# Altium integrated library Resistor - Current Sense.IntLib: 810 symbols (part 11 of 12)
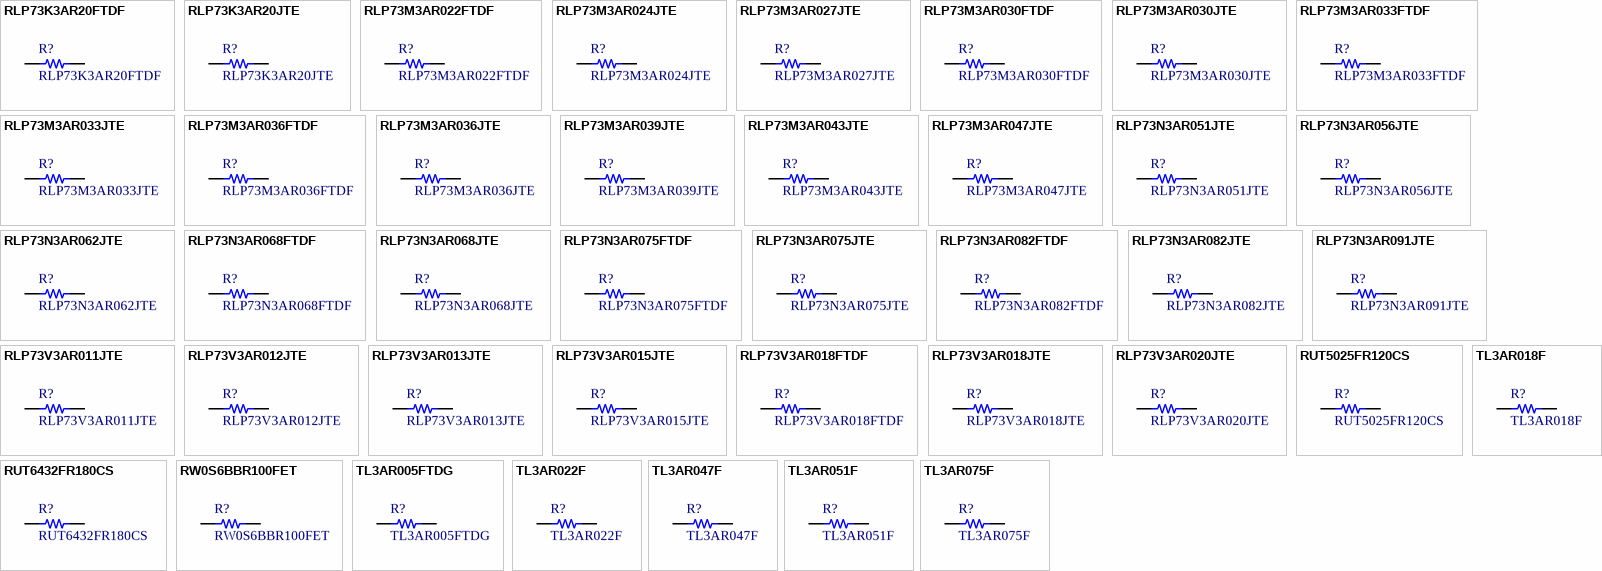
[diagram p30: symbols RLP73K3AR20FTDF to TL3AR075F]

## RUT5025FR120CS
designator R?
RES SMD 0.12 OHM 1% 2/3W 2010; Manufacturer: Samsung Electro-Mechanics America, Inc.; Value: 0.12; TemperatureRange: -55C ~ 155C; TemperatureCoefficient: 150ppm/C; PowerRating: 0.667W, 2/3W; Part Number: RUT5025FR120CS; PartId: 21520; Supplier 1: Digi-Key; Supplier Part Number 1: 1276-6182-2-ND; ComponentLink1Description: Datasheet; ComponentLink1URL: //media.digikey.com/pdf/Data%20Sheets/Samsung%20PDFs/CHIP_RESISTOR_Catalog.pdf; ComponentLink2Description: Digi-Key Listing; ComponentLink2URL: https://www.digikey.com/product-detail/en/samsung-electro-mechanics-america-inc/RUT5025FR120CS/1276-6182-2-ND/3966489; Tolerance: 1%; Price: 0.0615; Device Package: 2010 (5025 Metric)
footprint STACKPOLE CSR2010
pins: 1, 2

## RUT6432FR180CS
designator R?
RES SMD 0.18 OHM 1% 1W 2512; Manufacturer: Samsung Electro-Mechanics America, Inc.; Value: 0.18; TemperatureRange: -55C ~ 155C; TemperatureCoefficient: 150ppm/C; Part Number: RUT6432FR180CS; PartId: 21210; Supplier 1: Digi-Key; Supplier Part Number 1: 1276-6184-2-ND; ComponentLink1Description: Datasheet; ComponentLink1URL: //media.digikey.com/pdf/Data%20Sheets/Samsung%20PDFs/CHIP_RESISTOR_Catalog.pdf; ComponentLink2Description: Digi-Key Listing; ComponentLink2URL: https://www.digikey.com/product-detail/en/samsung-electro-mechanics-america-inc/RUT6432FR180CS/1276-6184-2-ND/3966491; Tolerance: 1%; PowerRating: 1W; Price: 0.0675; Device Package: 2512 (6432 Metric)
footprint STACKPOLE CSR2512
pins: 1, 2

## RW0S6BBR100FET
designator R?
RES SMD 0.1 OHM 1% 0.6W 2010; Manufacturer: Ohmite; Value: 0.1; TemperatureRange: -55C ~ 150C; TemperatureCoefficient: 90ppm/C; Part Number: RW0S6BBR100FET; PartId: 21609; Supplier 1: Digi-Key; Supplier Part Number 1: RW0S6BBR100FETTR-ND; ComponentLink1Description: Datasheet; ComponentLink1URL: http://www.ohmite.com/cat/res_surfmount.pdf; ComponentLink2Description: Digi-Key Listing; ComponentLink2URL: https://www.digikey.com/product-detail/en/ohmite/RW0S6BBR100FET/RW0S6BBR100FETTR-ND/1124887; Tolerance: 1%; PowerRating: 0.6W; Price: 0.552; Device Package: 2010 (5025 Metric)
footprint STACKPOLE CSR2010
pins: 1, 2

## TL3AR005FTDG
designator R?
RES SMD 0.005 OHM 1% 1W 2512; Value: 0.005; TemperatureRange: -65C ~ 170C; TemperatureCoefficient: 75ppm/C; Part Number: TL3AR005FTDG; PartId: 21484; Supplier 1: Digi-Key; Supplier Part Number 1: A121535TR-ND; ComponentLink1Description: Datasheet; ComponentLink1URL: http://www.te.com/commerce/DocumentDelivery/DDEController?Action=srchrtrv&DocNm=1773289&DocType=DS&DocLang=English; ComponentLink2Description: Digi-Key Listing; ComponentLink2URL: https://www.digikey.com/product-detail/en/te-connectivity-passive-product/TL3AR005FTDG/A121535TR-ND/2366040; Tolerance: 1%; PowerRating: 1W; Price: 0.5104; Device Package: 2512 (6432 Metric)
footprint STACKPOLE CSR2512
pins: 1, 2

## TL3AR018F
designator R?
RES SMD 0.018 OHM 1% 1W 2512; Value: 0.018; TemperatureRange: -65C ~ 170C; TemperatureCoefficient: 75ppm/C; Part Number: TL3AR018F; PartId: 21483; Supplier 1: Digi-Key; Supplier Part Number 1: A105814TR-ND; ComponentLink1Description: Datasheet; ComponentLink1URL: http://www.te.com/commerce/DocumentDelivery/DDEController?Action=srchrtrv&DocNm=1773289&DocType=DS&DocLang=English; ComponentLink2Description: Digi-Key Listing; ComponentLink2URL: https://www.digikey.com/product-detail/en/te-connectivity-passive-product/TL3AR018F/A105814TR-ND/3873517; Tolerance: 1%; PowerRating: 1W; Price: 0.5104; Device Package: 2512 (6432 Metric)
footprint STACKPOLE CSR2512
pins: 1, 2

## TL3AR022F
designator R?
RES SMD 0.022 OHM 1% 1W 2512; Value: 0.022; TemperatureRange: -65C ~ 170C; TemperatureCoefficient: 75ppm/C; Part Number: TL3AR022F; PartId: 21485; Supplier 1: Digi-Key; Supplier Part Number 1: A105816TR-ND; ComponentLink1Description: Datasheet; ComponentLink1URL: http://www.te.com/commerce/DocumentDelivery/DDEController?Action=srchrtrv&DocNm=1773289&DocType=DS&DocLang=English; ComponentLink2Description: Digi-Key Listing; ComponentLink2URL: https://www.digikey.com/product-detail/en/te-connectivity-passive-product/TL3AR022F/A105816TR-ND/3742562; Tolerance: 1%; PowerRating: 1W; Price: 0.5529; Device Package: 2512 (6432 Metric)
footprint STACKPOLE CSR2512
pins: 1, 2

## TL3AR047F
designator R?
RES SMD 0.047 OHM 1% 1W 2512; Value: 0.047; TemperatureRange: -65C ~ 170C; TemperatureCoefficient: 75ppm/C; Part Number: TL3AR047F; PartId: 21486; Supplier 1: Digi-Key; Supplier Part Number 1: A105818TR-ND; ComponentLink1Description: Datasheet; ComponentLink1URL: http://www.te.com/commerce/DocumentDelivery/DDEController?Action=srchrtrv&DocNm=1773289&DocType=DS&DocLang=English; ComponentLink2Description: Digi-Key Listing; ComponentLink2URL: https://www.digikey.com/product-detail/en/te-connectivity-passive-product/TL3AR047F/A105818TR-ND/3883200; Tolerance: 1%; PowerRating: 1W; Price: 0.5529; Device Package: 2512 (6432 Metric)
footprint STACKPOLE CSR2512
pins: 1, 2

## TL3AR051F
designator R?
RES SMD 0.051 OHM 1% 1W 2512; Value: 0.051; TemperatureRange: -65C ~ 170C; TemperatureCoefficient: 75ppm/C; Part Number: TL3AR051F; PartId: 21482; Supplier 1: Digi-Key; Supplier Part Number 1: A105525TR-ND; ComponentLink1Description: Datasheet; ComponentLink1URL: http://www.te.com/commerce/DocumentDelivery/DDEController?Action=srchrtrv&DocNm=1773289&DocType=DS&DocLang=English; ComponentLink2Description: Digi-Key Listing; ComponentLink2URL: https://www.digikey.com/product-detail/en/te-connectivity-passive-product/TL3AR051F/A105525TR-ND/3767288; Tolerance: 1%; PowerRating: 1W; Price: 0.5104; Device Package: 2512 (6432 Metric)
footprint STACKPOLE CSR2512
pins: 1, 2

## TL3AR075F
designator R?
RES SMD 0.075 OHM 1% 1W 2512; Value: 0.075; TemperatureRange: -65C ~ 170C; TemperatureCoefficient: 75ppm/C; Part Number: TL3AR075F; PartId: 21487; Supplier 1: Digi-Key; Supplier Part Number 1: A105874TR-ND; ComponentLink1Description: Datasheet; ComponentLink1URL: http://www.te.com/commerce/DocumentDelivery/DDEController?Action=srchrtrv&DocNm=1773289&DocType=DS&DocLang=English; ComponentLink2Description: Digi-Key Listing; ComponentLink2URL: https://www.digikey.com/product-detail/en/te-connectivity-passive-product/TL3AR075F/A105874TR-ND/3679936; Tolerance: 1%; PowerRating: 1W; Price: 0.5529; Device Package: 2512 (6432 Metric)
footprint STACKPOLE CSR2512
pins: 1, 2

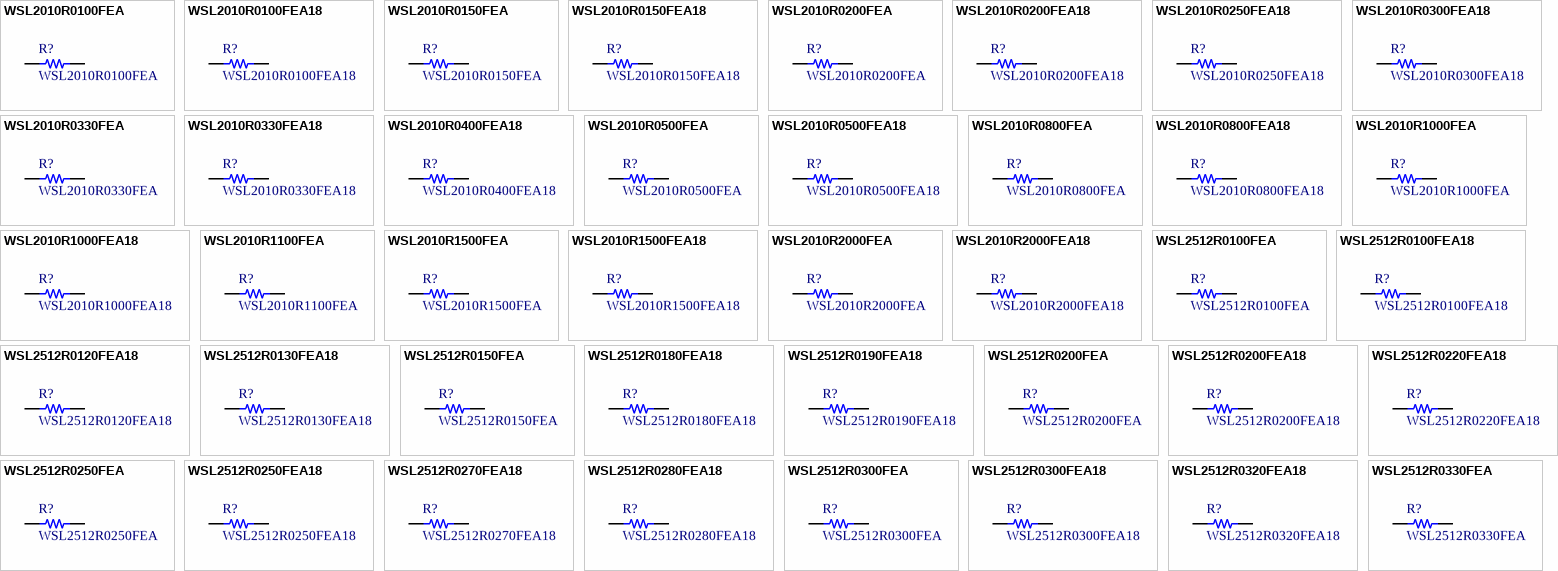
[diagram p18: symbols WSL2010R0100FEA to WSL2512R0330FEA]

## WSL2010R0100FEA
designator R?
RES SMD 0.01 OHM 1% 1/2W 2010; Manufacturer: Vishay Dale; Value: 0.01; TemperatureRange: -65C ~ 170C; TemperatureCoefficient: 75ppm/C; PowerRating: 0.5W, 1/2W; Part Number: WSL2010R0100FEA; PartId: 21575; Supplier 1: Digi-Key; Supplier Part Number 1: WSLE-.01TR-ND; ComponentLink1Description: Datasheet; ComponentLink1URL: http://www.vishay.com/docs/30100/wsl.pdf; ComponentLink2Description: Digi-Key Listing; ComponentLink2URL: https://www.digikey.com/product-detail/en/vishay-dale/WSL2010R0100FEA/WSLE-.01TR-ND/712517; Tolerance: 1%; Price: 0.325; Device Package: 2010 (5025 Metric)
footprint STACKPOLE CSR2010
pins: 1, 2

## WSL2010R0100FEA18
designator R?
RES SMD 0.01 OHM 1% 1W 2010; Manufacturer: Vishay Dale; Value: 0.01; TemperatureRange: -65C ~ 170C; TemperatureCoefficient: 75ppm/C; Part Number: WSL2010R0100FEA18; PartId: 21598; Supplier 1: Digi-Key; Supplier Part Number 1: WSLF-.01TR-ND; ComponentLink1Description: Datasheet; ComponentLink1URL: http://www.vishay.com/docs/31057/wslhigh.pdf; ComponentLink2Description: Digi-Key Listing; ComponentLink2URL: https://www.digikey.com/product-detail/en/vishay-dale/WSL2010R0100FEA18/WSLF-.01TR-ND/712518; Tolerance: 1%; PowerRating: 1W; Price: 0.4225; Device Package: 2010 (5025 Metric)
footprint STACKPOLE CSR2010
pins: 1, 2

## WSL2010R0150FEA
designator R?
RES SMD 0.015 OHM 1% 1/2W 2010; Manufacturer: Vishay Dale; Value: 0.015; TemperatureRange: -65C ~ 170C; TemperatureCoefficient: 75ppm/C; PowerRating: 0.5W, 1/2W; Part Number: WSL2010R0150FEA; PartId: 21576; Supplier 1: Digi-Key; Supplier Part Number 1: WSLE-.015TR-ND; ComponentLink1Description: Datasheet; ComponentLink1URL: http://www.vishay.com/docs/30100/wsl.pdf; ComponentLink2Description: Digi-Key Listing; ComponentLink2URL: https://www.digikey.com/product-detail/en/vishay-dale/WSL2010R0150FEA/WSLE-.015TR-ND/712519; Tolerance: 1%; Price: 0.325; Device Package: 2010 (5025 Metric)
footprint STACKPOLE CSR2010
pins: 1, 2

## WSL2010R0150FEA18
designator R?
RES SMD 0.015 OHM 1% 1W 2010; Manufacturer: Vishay Dale; Value: 0.015; TemperatureRange: -65C ~ 170C; TemperatureCoefficient: 75ppm/C; Part Number: WSL2010R0150FEA18; PartId: 21601; Supplier 1: Digi-Key; Supplier Part Number 1: WSLF-.015TR-ND; ComponentLink1Description: Datasheet; ComponentLink1URL: http://www.vishay.com/docs/31057/wslhigh.pdf; ComponentLink2Description: Digi-Key Listing; ComponentLink2URL: https://www.digikey.com/product-detail/en/vishay-dale/WSL2010R0150FEA18/WSLF-.015TR-ND/712520; Tolerance: 1%; PowerRating: 1W; Price: 0.4225; Device Package: 2010 (5025 Metric)
footprint STACKPOLE CSR2010
pins: 1, 2

## WSL2010R0200FEA
designator R?
RES SMD 0.02 OHM 1% 1/2W 2010; Manufacturer: Vishay Dale; Value: 0.02; TemperatureRange: -65C ~ 170C; TemperatureCoefficient: 75ppm/C; PowerRating: 0.5W, 1/2W; Part Number: WSL2010R0200FEA; PartId: 21574; Supplier 1: Digi-Key; Supplier Part Number 1: WSLE-.02TR-ND; ComponentLink1Description: Datasheet; ComponentLink1URL: http://www.vishay.com/docs/30100/wsl.pdf; ComponentLink2Description: Digi-Key Listing; ComponentLink2URL: https://www.digikey.com/product-detail/en/vishay-dale/WSL2010R0200FEA/WSLE-.02TR-ND/712521; Tolerance: 1%; Price: 0.325; Device Package: 2010 (5025 Metric)
footprint STACKPOLE CSR2010
pins: 1, 2

## WSL2010R0200FEA18
designator R?
RES SMD 0.02 OHM 1% 1W 2010; Manufacturer: Vishay Dale; Value: 0.02; TemperatureRange: -65C ~ 170C; TemperatureCoefficient: 75ppm/C; Part Number: WSL2010R0200FEA18; PartId: 21597; Supplier 1: Digi-Key; Supplier Part Number 1: WSLF-.02TR-ND; ComponentLink1Description: Datasheet; ComponentLink1URL: http://www.vishay.com/docs/31057/wslhigh.pdf; ComponentLink2Description: Digi-Key Listing; ComponentLink2URL: https://www.digikey.com/product-detail/en/vishay-dale/WSL2010R0200FEA18/WSLF-.02TR-ND/712522; Tolerance: 1%; PowerRating: 1W; Price: 0.4225; Device Package: 2010 (5025 Metric)
footprint STACKPOLE CSR2010
pins: 1, 2

## WSL2010R0250FEA18
designator R?
RES SMD 0.025 OHM 1% 1W 2010; Manufacturer: Vishay Dale; Value: 0.025; TemperatureRange: -65C ~ 170C; TemperatureCoefficient: 75ppm/C; Part Number: WSL2010R0250FEA18; PartId: 21600; Supplier 1: Digi-Key; Supplier Part Number 1: WSLF-.025TR-ND; ComponentLink1Description: Datasheet; ComponentLink1URL: http://www.vishay.com/docs/31057/wslhigh.pdf; ComponentLink2Description: Digi-Key Listing; ComponentLink2URL: https://www.digikey.com/product-detail/en/vishay-dale/WSL2010R0250FEA18/WSLF-.025TR-ND/712524; Tolerance: 1%; PowerRating: 1W; Price: 0.4225; Device Package: 2010 (5025 Metric)
footprint STACKPOLE CSR2010
pins: 1, 2

## WSL2010R0300FEA18
designator R?
RES SMD 0.03 OHM 1% 1W 2010; Manufacturer: Vishay Dale; Value: 0.03; TemperatureRange: -65C ~ 170C; TemperatureCoefficient: 75ppm/C; Part Number: WSL2010R0300FEA18; PartId: 21604; Supplier 1: Digi-Key; Supplier Part Number 1: WSLF-.03TR-ND; ComponentLink1Description: Datasheet; ComponentLink1URL: http://www.vishay.com/docs/31057/wslhigh.pdf; ComponentLink2Description: Digi-Key Listing; ComponentLink2URL: https://www.digikey.com/product-detail/en/vishay-dale/WSL2010R0300FEA18/WSLF-.03TR-ND/712526; Tolerance: 1%; PowerRating: 1W; Price: 0.4225; Device Package: 2010 (5025 Metric)
footprint STACKPOLE CSR2010
pins: 1, 2

## WSL2010R0330FEA
designator R?
RES SMD 0.033 OHM 1% 1/2W 2010; Manufacturer: Vishay Dale; Value: 0.033; TemperatureRange: -65C ~ 170C; TemperatureCoefficient: 75ppm/C; PowerRating: 0.5W, 1/2W; Part Number: WSL2010R0330FEA; PartId: 21573; Supplier 1: Digi-Key; Supplier Part Number 1: WSLE-.033TR-ND; ComponentLink1Description: Datasheet; ComponentLink1URL: http://www.vishay.com/docs/30100/wsl.pdf; ComponentLink2Description: Digi-Key Listing; ComponentLink2URL: https://www.digikey.com/product-detail/en/vishay-dale/WSL2010R0330FEA/WSLE-.033TR-ND/712527; Tolerance: 1%; Price: 0.325; Device Package: 2010 (5025 Metric)
footprint STACKPOLE CSR2010
pins: 1, 2

## WSL2010R0330FEA18
designator R?
RES SMD 0.033 OHM 1% 1W 2010; Manufacturer: Vishay Dale; Value: 0.033; TemperatureRange: -65C ~ 170C; TemperatureCoefficient: 75ppm/C; Part Number: WSL2010R0330FEA18; PartId: 21602; Supplier 1: Digi-Key; Supplier Part Number 1: WSLF-.033TR-ND; ComponentLink1Description: Datasheet; ComponentLink1URL: http://www.vishay.com/docs/31057/wslhigh.pdf; ComponentLink2Description: Digi-Key Listing; ComponentLink2URL: https://www.digikey.com/product-detail/en/vishay-dale/WSL2010R0330FEA18/WSLF-.033TR-ND/712528; Tolerance: 1%; PowerRating: 1W; Price: 0.4225; Device Package: 2010 (5025 Metric)
footprint STACKPOLE CSR2010
pins: 1, 2

## WSL2010R0400FEA18
designator R?
RES SMD 0.04 OHM 1% 1W 2010; Manufacturer: Vishay Dale; Value: 0.04; TemperatureRange: -65C ~ 170C; TemperatureCoefficient: 75ppm/C; Part Number: WSL2010R0400FEA18; PartId: 21603; Supplier 1: Digi-Key; Supplier Part Number 1: WSLF-.04TR-ND; ComponentLink1Description: Datasheet; ComponentLink1URL: http://www.vishay.com/docs/31057/wslhigh.pdf; ComponentLink2Description: Digi-Key Listing; ComponentLink2URL: https://www.digikey.com/product-detail/en/vishay-dale/WSL2010R0400FEA18/WSLF-.04TR-ND/712530; Tolerance: 1%; PowerRating: 1W; Price: 0.4225; Device Package: 2010 (5025 Metric)
footprint STACKPOLE CSR2010
pins: 1, 2

## WSL2010R0500FEA
designator R?
RES SMD 0.05 OHM 1% 1/2W 2010; Manufacturer: Vishay Dale; Value: 0.05; TemperatureRange: -65C ~ 170C; TemperatureCoefficient: 75ppm/C; PowerRating: 0.5W, 1/2W; Part Number: WSL2010R0500FEA; PartId: 21577; Supplier 1: Digi-Key; Supplier Part Number 1: WSLE-.05TR-ND; ComponentLink1Description: Datasheet; ComponentLink1URL: http://www.vishay.com/docs/30100/wsl.pdf; ComponentLink2Description: Digi-Key Listing; ComponentLink2URL: https://www.digikey.com/product-detail/en/vishay-dale/WSL2010R0500FEA/WSLE-.05TR-ND/712531; Tolerance: 1%; Price: 0.325; Device Package: 2010 (5025 Metric)
footprint STACKPOLE CSR2010
pins: 1, 2

## WSL2010R0500FEA18
designator R?
RES SMD 0.05 OHM 1% 1W 2010; Manufacturer: Vishay Dale; Value: 0.05; TemperatureRange: -65C ~ 170C; TemperatureCoefficient: 75ppm/C; Part Number: WSL2010R0500FEA18; PartId: 21599; Supplier 1: Digi-Key; Supplier Part Number 1: WSLF-.05TR-ND; ComponentLink1Description: Datasheet; ComponentLink1URL: http://www.vishay.com/docs/31057/wslhigh.pdf; ComponentLink2Description: Digi-Key Listing; ComponentLink2URL: https://www.digikey.com/product-detail/en/vishay-dale/WSL2010R0500FEA18/WSLF-.05TR-ND/712532; Tolerance: 1%; PowerRating: 1W; Price: 0.4225; Device Package: 2010 (5025 Metric)
footprint STACKPOLE CSR2010
pins: 1, 2

## WSL2010R0800FEA
designator R?
RES SMD 0.08 OHM 1% 1/2W 2010; Manufacturer: Vishay Dale; Value: 0.08; TemperatureRange: -65C ~ 170C; TemperatureCoefficient: 75ppm/C; PowerRating: 0.5W, 1/2W; Part Number: WSL2010R0800FEA; PartId: 21570; Supplier 1: Digi-Key; Supplier Part Number 1: WSLE-.08TR-ND; ComponentLink1Description: Datasheet; ComponentLink1URL: http://www.vishay.com/docs/30100/wsl.pdf; ComponentLink2Description: Digi-Key Listing; ComponentLink2URL: https://www.digikey.com/product-detail/en/vishay-dale/WSL2010R0800FEA/WSLE-.08TR-ND/712535; Tolerance: 1%; Price: 0.2761; Device Package: 2010 (5025 Metric)
footprint STACKPOLE CSR2010
pins: 1, 2

## WSL2010R0800FEA18
designator R?
RES SMD 0.08 OHM 1% 1W 2010; Manufacturer: Vishay Dale; Value: 0.08; TemperatureRange: -65C ~ 170C; TemperatureCoefficient: 75ppm/C; Part Number: WSL2010R0800FEA18; PartId: 21583; Supplier 1: Digi-Key; Supplier Part Number 1: WSLF-.08TR-ND; ComponentLink1Description: Datasheet; ComponentLink1URL: http://www.vishay.com/docs/31057/wslhigh.pdf; ComponentLink2Description: Digi-Key Listing; ComponentLink2URL: https://www.digikey.com/product-detail/en/vishay-dale/WSL2010R0800FEA18/WSLF-.08TR-ND/712536; Tolerance: 1%; PowerRating: 1W; Price: 0.3575; Device Package: 2010 (5025 Metric)
footprint STACKPOLE CSR2010
pins: 1, 2

## WSL2010R1000FEA
designator R?
RES SMD 0.1 OHM 1% 1/2W 2010; Manufacturer: Vishay Dale; Value: 0.1; TemperatureRange: -65C ~ 170C; TemperatureCoefficient: 75ppm/C; PowerRating: 0.5W, 1/2W; Part Number: WSL2010R1000FEA; PartId: 21568; Supplier 1: Digi-Key; Supplier Part Number 1: WSLE-.10TR-ND; ComponentLink1Description: Datasheet; ComponentLink1URL: http://www.vishay.com/docs/30100/wsl.pdf; ComponentLink2Description: Digi-Key Listing; ComponentLink2URL: https://www.digikey.com/product-detail/en/vishay-dale/WSL2010R1000FEA/WSLE-.10TR-ND/712538; Tolerance: 1%; Price: 0.2761; Device Package: 2010 (5025 Metric)
footprint STACKPOLE CSR2010
pins: 1, 2

## WSL2010R1000FEA18
designator R?
RES SMD 0.1 OHM 1% 1W 2010; Manufacturer: Vishay Dale; Value: 0.1; TemperatureRange: -65C ~ 170C; TemperatureCoefficient: 75ppm/C; Part Number: WSL2010R1000FEA18; PartId: 21581; Supplier 1: Digi-Key; Supplier Part Number 1: WSLF-.10TR-ND; ComponentLink1Description: Datasheet; ComponentLink1URL: http://www.vishay.com/docs/31057/wslhigh.pdf; ComponentLink2Description: Digi-Key Listing; ComponentLink2URL: https://www.digikey.com/product-detail/en/vishay-dale/WSL2010R1000FEA18/WSLF-.10TR-ND/712539; Tolerance: 1%; PowerRating: 1W; Price: 0.3575; Device Package: 2010 (5025 Metric)
footprint STACKPOLE CSR2010
pins: 1, 2

## WSL2010R1100FEA
designator R?
RES SMD 0.11 OHM 1% 1/2W 2010; Manufacturer: Vishay Dale; Value: 0.11; TemperatureRange: -65C ~ 170C; TemperatureCoefficient: 75ppm/C; PowerRating: 0.5W, 1/2W; Part Number: WSL2010R1100FEA; PartId: 21572; Supplier 1: Digi-Key; Supplier Part Number 1: WSLE-.11TR-ND; ComponentLink1Description: Datasheet; ComponentLink1URL: http://www.vishay.com/docs/30100/wsl.pdf; ComponentLink2Description: Digi-Key Listing; ComponentLink2URL: https://www.digikey.com/product-detail/en/vishay-dale/WSL2010R1100FEA/WSLE-.11TR-ND/712540; Tolerance: 1%; Price: 0.2761; Device Package: 2010 (5025 Metric)
footprint STACKPOLE CSR2010
pins: 1, 2

## WSL2010R1500FEA
designator R?
RES SMD 0.15 OHM 1% 1/2W 2010; Manufacturer: Vishay Dale; Value: 0.15; TemperatureRange: -65C ~ 170C; TemperatureCoefficient: 75ppm/C; PowerRating: 0.5W, 1/2W; Part Number: WSL2010R1500FEA; PartId: 21571; Supplier 1: Digi-Key; Supplier Part Number 1: WSLE-.15TR-ND; ComponentLink1Description: Datasheet; ComponentLink1URL: http://www.vishay.com/docs/30100/wsl.pdf; ComponentLink2Description: Digi-Key Listing; ComponentLink2URL: https://www.digikey.com/product-detail/en/vishay-dale/WSL2010R1500FEA/WSLE-.15TR-ND/712541; Tolerance: 1%; Price: 0.2761; Device Package: 2010 (5025 Metric)
footprint STACKPOLE CSR2010
pins: 1, 2

## WSL2010R1500FEA18
designator R?
RES SMD 0.15 OHM 1% 1W 2010; Manufacturer: Vishay Dale; Value: 0.15; TemperatureRange: -65C ~ 170C; TemperatureCoefficient: 75ppm/C; Part Number: WSL2010R1500FEA18; PartId: 21582; Supplier 1: Digi-Key; Supplier Part Number 1: WSLF-.15TR-ND; ComponentLink1Description: Datasheet; ComponentLink1URL: http://www.vishay.com/docs/31057/wslhigh.pdf; ComponentLink2Description: Digi-Key Listing; ComponentLink2URL: https://www.digikey.com/product-detail/en/vishay-dale/WSL2010R1500FEA18/WSLF-.15TR-ND/712542; Tolerance: 1%; PowerRating: 1W; Price: 0.3575; Device Package: 2010 (5025 Metric)
footprint STACKPOLE CSR2010
pins: 1, 2

## WSL2010R2000FEA
designator R?
RES SMD 0.2 OHM 1% 1/2W 2010; Manufacturer: Vishay Dale; Value: 0.2; TemperatureRange: -65C ~ 170C; TemperatureCoefficient: 75ppm/C; PowerRating: 0.5W, 1/2W; Part Number: WSL2010R2000FEA; PartId: 21569; Supplier 1: Digi-Key; Supplier Part Number 1: WSLE-.20TR-ND; ComponentLink1Description: Datasheet; ComponentLink1URL: http://www.vishay.com/docs/30100/wsl.pdf; ComponentLink2Description: Digi-Key Listing; ComponentLink2URL: https://www.digikey.com/product-detail/en/vishay-dale/WSL2010R2000FEA/WSLE-.20TR-ND/712543; Tolerance: 1%; Price: 0.2761; Device Package: 2010 (5025 Metric)
footprint STACKPOLE CSR2010
pins: 1, 2

## WSL2010R2000FEA18
designator R?
RES SMD 0.2 OHM 1% 1W 2010; Manufacturer: Vishay Dale; Value: 0.2; TemperatureRange: -65C ~ 170C; TemperatureCoefficient: 75ppm/C; Part Number: WSL2010R2000FEA18; PartId: 21580; Supplier 1: Digi-Key; Supplier Part Number 1: WSLF-.20TR-ND; ComponentLink1Description: Datasheet; ComponentLink1URL: http://www.vishay.com/docs/31057/wslhigh.pdf; ComponentLink2Description: Digi-Key Listing; ComponentLink2URL: https://www.digikey.com/product-detail/en/vishay-dale/WSL2010R2000FEA18/WSLF-.20TR-ND/712544; Tolerance: 1%; PowerRating: 1W; Price: 0.3575; Device Package: 2010 (5025 Metric)
footprint STACKPOLE CSR2010
pins: 1, 2

## WSL2512R0100FEA
designator R?
RES SMD 0.01 OHM 1% 1W 2512; Manufacturer: Vishay Dale; Value: 0.01; TemperatureRange: -65C ~ 170C; TemperatureCoefficient: 75ppm/C; Part Number: WSL2512R0100FEA; PartId: 21472; Supplier 1: Digi-Key; Supplier Part Number 1: WSLG-.01TR-ND; ComponentLink1Description: Datasheet; ComponentLink1URL: http://www.vishay.com/docs/30100/wsl.pdf; ComponentLink2Description: Digi-Key Listing; ComponentLink2URL: https://www.digikey.com/product-detail/en/vishay-dale/WSL2512R0100FEA/WSLG-.01TR-ND/712561; Tolerance: 1%; PowerRating: 1W; Price: 0.442; Device Package: 2512 (6432 Metric)
footprint STACKPOLE CSR2512
pins: 1, 2

## WSL2512R0100FEA18
designator R?
RES SMD 0.01 OHM 1% 2W 2512; Manufacturer: Vishay Dale; Value: 0.01; TemperatureRange: -65C ~ 170C; TemperatureCoefficient: 75ppm/C; Part Number: WSL2512R0100FEA18; PartId: 21488; Supplier 1: Digi-Key; Supplier Part Number 1: WSLH-.01TR-ND; ComponentLink1Description: Datasheet; ComponentLink1URL: http://www.vishay.com/docs/31057/wslhigh.pdf; ComponentLink2Description: Digi-Key Listing; ComponentLink2URL: https://www.digikey.com/product-detail/en/vishay-dale/WSL2512R0100FEA18/WSLH-.01TR-ND/2695047; Tolerance: 1%; PowerRating: 2W; Price: 0.572; Device Package: 2512 (6432 Metric)
footprint STACKPOLE CSR2512
pins: 1, 2

## WSL2512R0120FEA18
designator R?
RES SMD 0.012 OHM 1% 2W 2512; Manufacturer: Vishay Dale; Value: 0.012; TemperatureRange: -65C ~ 170C; TemperatureCoefficient: 75ppm/C; Part Number: WSL2512R0120FEA18; PartId: 21469; Supplier 1: Digi-Key; Supplier Part Number 1: WSLH-.012TR-ND; ComponentLink1Description: Datasheet; ComponentLink1URL: http://www.vishay.com/docs/31057/wslhigh.pdf; ComponentLink2Description: Digi-Key Listing; ComponentLink2URL: https://www.digikey.com/product-detail/en/vishay-dale/WSL2512R0120FEA18/WSLH-.012TR-ND/2695048; Tolerance: 1%; PowerRating: 2W; Price: 0.4225; Device Package: 2512 (6432 Metric)
footprint STACKPOLE CSR2512
pins: 1, 2

## WSL2512R0130FEA18
designator R?
RES SMD 0.013 OHM 1% 2W 2512; Manufacturer: Vishay Dale; Value: 0.013; TemperatureRange: -65C ~ 170C; TemperatureCoefficient: 75ppm/C; Part Number: WSL2512R0130FEA18; PartId: 21489; Supplier 1: Digi-Key; Supplier Part Number 1: WSLH-.013TR-ND; ComponentLink1Description: Datasheet; ComponentLink1URL: http://www.vishay.com/docs/31057/wslhigh.pdf; ComponentLink2Description: Digi-Key Listing; ComponentLink2URL: https://www.digikey.com/product-detail/en/vishay-dale/WSL2512R0130FEA18/WSLH-.013TR-ND/2695049; Tolerance: 1%; PowerRating: 2W; Price: 0.572; Device Package: 2512 (6432 Metric)
footprint STACKPOLE CSR2512
pins: 1, 2

## WSL2512R0150FEA
designator R?
RES SMD 0.015 OHM 1% 1W 2512; Manufacturer: Vishay Dale; Value: 0.015; TemperatureRange: -65C ~ 170C; TemperatureCoefficient: 75ppm/C; Part Number: WSL2512R0150FEA; PartId: 21479; Supplier 1: Digi-Key; Supplier Part Number 1: WSLG-.015TR-ND; ComponentLink1Description: Datasheet; ComponentLink1URL: http://www.vishay.com/docs/30100/wsl.pdf; ComponentLink2Description: Digi-Key Listing; ComponentLink2URL: https://www.digikey.com/product-detail/en/vishay-dale/WSL2512R0150FEA/WSLG-.015TR-ND/712562; Tolerance: 1%; PowerRating: 1W; Price: 0.442; Device Package: 2512 (6432 Metric)
footprint STACKPOLE CSR2512
pins: 1, 2

## WSL2512R0180FEA18
designator R?
RES SMD 0.018 OHM 1% 2W 2512; Manufacturer: Vishay Dale; Value: 0.018; TemperatureRange: -65C ~ 170C; TemperatureCoefficient: 75ppm/C; Part Number: WSL2512R0180FEA18; PartId: 21492; Supplier 1: Digi-Key; Supplier Part Number 1: WSLH-.018TR-ND; ComponentLink1Description: Datasheet; ComponentLink1URL: http://www.vishay.com/docs/31057/wslhigh.pdf; ComponentLink2Description: Digi-Key Listing; ComponentLink2URL: https://www.digikey.com/product-detail/en/vishay-dale/WSL2512R0180FEA18/WSLH-.018TR-ND/2695053; Tolerance: 1%; PowerRating: 2W; Price: 0.572; Device Package: 2512 (6432 Metric)
footprint STACKPOLE CSR2512
pins: 1, 2

## WSL2512R0190FEA18
designator R?
RES SMD 0.019 OHM 1% 2W 2512; Manufacturer: Vishay Dale; Value: 0.019; TemperatureRange: -65C ~ 170C; TemperatureCoefficient: 75ppm/C; Part Number: WSL2512R0190FEA18; PartId: 21497; Supplier 1: Digi-Key; Supplier Part Number 1: WSLH-.019TR-ND; ComponentLink1Description: Datasheet; ComponentLink1URL: http://www.vishay.com/docs/31057/wslhigh.pdf; ComponentLink2Description: Digi-Key Listing; ComponentLink2URL: https://www.digikey.com/product-detail/en/vishay-dale/WSL2512R0190FEA18/WSLH-.019TR-ND/2695054; Tolerance: 1%; PowerRating: 2W; Price: 0.572; Device Package: 2512 (6432 Metric)
footprint STACKPOLE CSR2512
pins: 1, 2

## WSL2512R0200FEA
designator R?
RES SMD 0.02 OHM 1% 1W 2512; Manufacturer: Vishay Dale; Value: 0.02; TemperatureRange: -65C ~ 170C; TemperatureCoefficient: 75ppm/C; Part Number: WSL2512R0200FEA; PartId: 21475; Supplier 1: Digi-Key; Supplier Part Number 1: WSLG-.02TR-ND; ComponentLink1Description: Datasheet; ComponentLink1URL: http://www.vishay.com/docs/30100/wsl.pdf; ComponentLink2Description: Digi-Key Listing; ComponentLink2URL: https://www.digikey.com/product-detail/en/vishay-dale/WSL2512R0200FEA/WSLG-.02TR-ND/712563; Tolerance: 1%; PowerRating: 1W; Price: 0.442; Device Package: 2512 (6432 Metric)
footprint STACKPOLE CSR2512
pins: 1, 2

## WSL2512R0200FEA18
designator R?
RES SMD 0.02 OHM 1% 2W 2512; Manufacturer: Vishay Dale; Value: 0.02; TemperatureRange: -65C ~ 170C; TemperatureCoefficient: 75ppm/C; Part Number: WSL2512R0200FEA18; PartId: 21491; Supplier 1: Digi-Key; Supplier Part Number 1: WSLH-.02TR-ND; ComponentLink1Description: Datasheet; ComponentLink1URL: http://www.vishay.com/docs/31057/wslhigh.pdf; ComponentLink2Description: Digi-Key Listing; ComponentLink2URL: https://www.digikey.com/product-detail/en/vishay-dale/WSL2512R0200FEA18/WSLH-.02TR-ND/2695055; Tolerance: 1%; PowerRating: 2W; Price: 0.572; Device Package: 2512 (6432 Metric)
footprint STACKPOLE CSR2512
pins: 1, 2

## WSL2512R0220FEA18
designator R?
RES SMD 0.022 OHM 1% 2W 2512; Manufacturer: Vishay Dale; Value: 0.022; TemperatureRange: -65C ~ 170C; TemperatureCoefficient: 75ppm/C; Part Number: WSL2512R0220FEA18; PartId: 21493; Supplier 1: Digi-Key; Supplier Part Number 1: WSLH-.022TR-ND; ComponentLink1Description: Datasheet; ComponentLink1URL: http://www.vishay.com/docs/31057/wslhigh.pdf; ComponentLink2Description: Digi-Key Listing; ComponentLink2URL: https://www.digikey.com/product-detail/en/vishay-dale/WSL2512R0220FEA18/WSLH-.022TR-ND/2695056; Tolerance: 1%; PowerRating: 2W; Price: 0.572; Device Package: 2512 (6432 Metric)
footprint STACKPOLE CSR2512
pins: 1, 2

## WSL2512R0250FEA
designator R?
RES SMD 0.025 OHM 1% 1W 2512; Manufacturer: Vishay Dale; Value: 0.025; TemperatureRange: -65C ~ 170C; TemperatureCoefficient: 75ppm/C; Part Number: WSL2512R0250FEA; PartId: 21474; Supplier 1: Digi-Key; Supplier Part Number 1: WSLG-.025TR-ND; ComponentLink1Description: Datasheet; ComponentLink1URL: http://www.vishay.com/docs/30100/wsl.pdf; ComponentLink2Description: Digi-Key Listing; ComponentLink2URL: https://www.digikey.com/product-detail/en/vishay-dale/WSL2512R0250FEA/WSLG-.025TR-ND/712564; Tolerance: 1%; PowerRating: 1W; Price: 0.442; Device Package: 2512 (6432 Metric)
footprint STACKPOLE CSR2512
pins: 1, 2

## WSL2512R0250FEA18
designator R?
RES SMD 0.025 OHM 1% 2W 2512; Manufacturer: Vishay Dale; Value: 0.025; TemperatureRange: -65C ~ 170C; TemperatureCoefficient: 75ppm/C; Part Number: WSL2512R0250FEA18; PartId: 21494; Supplier 1: Digi-Key; Supplier Part Number 1: WSLH-.025TR-ND; ComponentLink1Description: Datasheet; ComponentLink1URL: http://www.vishay.com/docs/31057/wslhigh.pdf; ComponentLink2Description: Digi-Key Listing; ComponentLink2URL: https://www.digikey.com/product-detail/en/vishay-dale/WSL2512R0250FEA18/WSLH-.025TR-ND/2695057; Tolerance: 1%; PowerRating: 2W; Price: 0.572; Device Package: 2512 (6432 Metric)
footprint STACKPOLE CSR2512
pins: 1, 2

## WSL2512R0270FEA18
designator R?
RES SMD 0.027 OHM 1% 2W 2512; Manufacturer: Vishay Dale; Value: 0.027; TemperatureRange: -65C ~ 170C; TemperatureCoefficient: 75ppm/C; Part Number: WSL2512R0270FEA18; PartId: 21490; Supplier 1: Digi-Key; Supplier Part Number 1: WSLH-.027TR-ND; ComponentLink1Description: Datasheet; ComponentLink1URL: http://www.vishay.com/docs/31057/wslhigh.pdf; ComponentLink2Description: Digi-Key Listing; ComponentLink2URL: https://www.digikey.com/product-detail/en/vishay-dale/WSL2512R0270FEA18/WSLH-.027TR-ND/2695059; Tolerance: 1%; PowerRating: 2W; Price: 0.572; Device Package: 2512 (6432 Metric)
footprint STACKPOLE CSR2512
pins: 1, 2

## WSL2512R0280FEA18
designator R?
RES SMD 0.028 OHM 1% 2W 2512; Manufacturer: Vishay Dale; Value: 0.028; TemperatureRange: -65C ~ 170C; TemperatureCoefficient: 75ppm/C; Part Number: WSL2512R0280FEA18; PartId: 21498; Supplier 1: Digi-Key; Supplier Part Number 1: WSLH-.028TR-ND; ComponentLink1Description: Datasheet; ComponentLink1URL: http://www.vishay.com/docs/31057/wslhigh.pdf; ComponentLink2Description: Digi-Key Listing; ComponentLink2URL: https://www.digikey.com/product-detail/en/vishay-dale/WSL2512R0280FEA18/WSLH-.028TR-ND/2695060; Tolerance: 1%; PowerRating: 2W; Price: 0.572; Device Package: 2512 (6432 Metric)
footprint STACKPOLE CSR2512
pins: 1, 2

## WSL2512R0300FEA
designator R?
RES SMD 0.03 OHM 1% 1W 2512; Manufacturer: Vishay Dale; Value: 0.03; TemperatureRange: -65C ~ 170C; TemperatureCoefficient: 75ppm/C; Part Number: WSL2512R0300FEA; PartId: 21477; Supplier 1: Digi-Key; Supplier Part Number 1: WSLG-.03TR-ND; ComponentLink1Description: Datasheet; ComponentLink1URL: http://www.vishay.com/docs/30100/wsl.pdf; ComponentLink2Description: Digi-Key Listing; ComponentLink2URL: https://www.digikey.com/product-detail/en/vishay-dale/WSL2512R0300FEA/WSLG-.03TR-ND/712565; Tolerance: 1%; PowerRating: 1W; Price: 0.442; Device Package: 2512 (6432 Metric)
footprint STACKPOLE CSR2512
pins: 1, 2

## WSL2512R0300FEA18
designator R?
RES SMD 0.03 OHM 1% 2W 2512; Manufacturer: Vishay Dale; Value: 0.03; TemperatureRange: -65C ~ 170C; TemperatureCoefficient: 75ppm/C; Part Number: WSL2512R0300FEA18; PartId: 21470; Supplier 1: Digi-Key; Supplier Part Number 1: WSLH-.03TR-ND; ComponentLink1Description: Datasheet; ComponentLink1URL: http://www.vishay.com/docs/31057/wslhigh.pdf; ComponentLink2Description: Digi-Key Listing; ComponentLink2URL: https://www.digikey.com/product-detail/en/vishay-dale/WSL2512R0300FEA18/WSLH-.03TR-ND/2695062; Tolerance: 1%; PowerRating: 2W; Price: 0.4225; Device Package: 2512 (6432 Metric)
footprint STACKPOLE CSR2512
pins: 1, 2

## WSL2512R0320FEA18
designator R?
RES SMD 0.032 OHM 1% 2W 2512; Manufacturer: Vishay Dale; Value: 0.032; TemperatureRange: -65C ~ 170C; TemperatureCoefficient: 75ppm/C; Part Number: WSL2512R0320FEA18; PartId: 21495; Supplier 1: Digi-Key; Supplier Part Number 1: WSLH-.032TR-ND; ComponentLink1Description: Datasheet; ComponentLink1URL: http://www.vishay.com/docs/31057/wslhigh.pdf; ComponentLink2Description: Digi-Key Listing; ComponentLink2URL: https://www.digikey.com/product-detail/en/vishay-dale/WSL2512R0320FEA18/WSLH-.032TR-ND/2695063; Tolerance: 1%; PowerRating: 2W; Price: 0.572; Device Package: 2512 (6432 Metric)
footprint STACKPOLE CSR2512
pins: 1, 2

## WSL2512R0330FEA
designator R?
RES SMD 0.033 OHM 1% 1W 2512; Manufacturer: Vishay Dale; Value: 0.033; TemperatureRange: -65C ~ 170C; TemperatureCoefficient: 75ppm/C; Part Number: WSL2512R0330FEA; PartId: 21480; Supplier 1: Digi-Key; Supplier Part Number 1: WSLG-.033TR-ND; ComponentLink1Description: Datasheet; ComponentLink1URL: http://www.vishay.com/docs/30100/wsl.pdf; ComponentLink2Description: Digi-Key Listing; ComponentLink2URL: https://www.digikey.com/product-detail/en/vishay-dale/WSL2512R0330FEA/WSLG-.033TR-ND/712566; Tolerance: 1%; PowerRating: 1W; Price: 0.442; Device Package: 2512 (6432 Metric)
footprint STACKPOLE CSR2512
pins: 1, 2

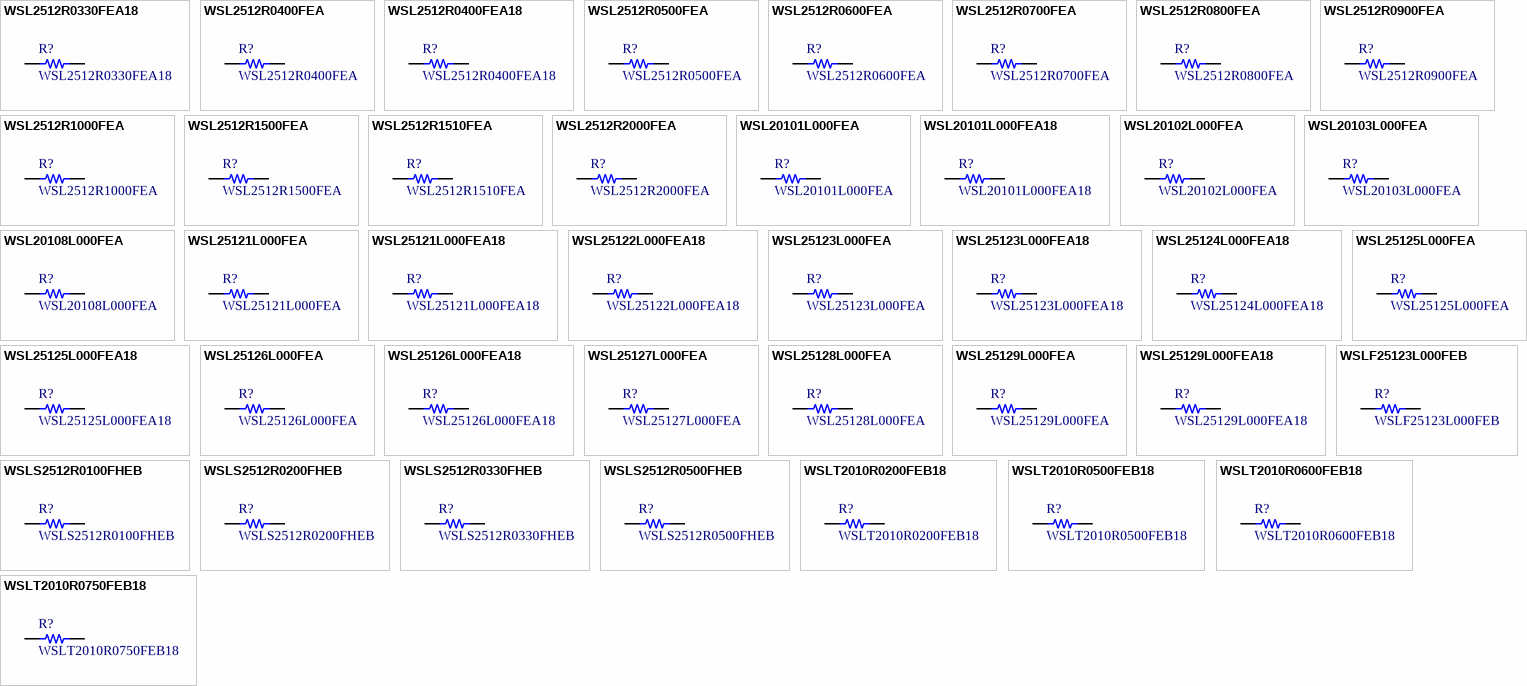
[diagram p19: symbols WSL2512R0330FEA18 to WSLT2010R0750FEB18]

## WSL2512R0330FEA18
designator R?
RES SMD 0.033 OHM 1% 2W 2512; Manufacturer: Vishay Dale; Value: 0.033; TemperatureRange: -65C ~ 170C; TemperatureCoefficient: 75ppm/C; Part Number: WSL2512R0330FEA18; PartId: 21499; Supplier 1: Digi-Key; Supplier Part Number 1: WSLH-.033TR-ND; ComponentLink1Description: Datasheet; ComponentLink1URL: http://www.vishay.com/docs/31057/wslhigh.pdf; ComponentLink2Description: Digi-Key Listing; ComponentLink2URL: https://www.digikey.com/product-detail/en/vishay-dale/WSL2512R0330FEA18/WSLH-.033TR-ND/2695064; Tolerance: 1%; PowerRating: 2W; Price: 0.572; Device Package: 2512 (6432 Metric)
footprint STACKPOLE CSR2512
pins: 1, 2

## WSL2512R0400FEA
designator R?
RES SMD 0.04 OHM 1% 1W 2512; Manufacturer: Vishay Dale; Value: 0.04; TemperatureRange: -65C ~ 170C; TemperatureCoefficient: 75ppm/C; Part Number: WSL2512R0400FEA; PartId: 21478; Supplier 1: Digi-Key; Supplier Part Number 1: WSLG-.04TR-ND; ComponentLink1Description: Datasheet; ComponentLink1URL: http://www.vishay.com/docs/30100/wsl.pdf; ComponentLink2Description: Digi-Key Listing; ComponentLink2URL: https://www.digikey.com/product-detail/en/vishay-dale/WSL2512R0400FEA/WSLG-.04TR-ND/712567; Tolerance: 1%; PowerRating: 1W; Price: 0.442; Device Package: 2512 (6432 Metric)
footprint STACKPOLE CSR2512
pins: 1, 2

## WSL2512R0400FEA18
designator R?
RES SMD 0.04 OHM 1% 2W 2512; Manufacturer: Vishay Dale; Value: 0.04; TemperatureRange: -65C ~ 170C; TemperatureCoefficient: 75ppm/C; Part Number: WSL2512R0400FEA18; PartId: 21496; Supplier 1: Digi-Key; Supplier Part Number 1: WSLH-.04TR-ND; ComponentLink1Description: Datasheet; ComponentLink1URL: http://www.vishay.com/docs/31057/wslhigh.pdf; ComponentLink2Description: Digi-Key Listing; ComponentLink2URL: https://www.digikey.com/product-detail/en/vishay-dale/WSL2512R0400FEA18/WSLH-.04TR-ND/2695066; Tolerance: 1%; PowerRating: 2W; Price: 0.572; Device Package: 2512 (6432 Metric)
footprint STACKPOLE CSR2512
pins: 1, 2

## WSL2512R0500FEA
designator R?
RES SMD 0.05 OHM 1% 1W 2512; Manufacturer: Vishay Dale; Value: 0.05; TemperatureRange: -65C ~ 170C; TemperatureCoefficient: 75ppm/C; Part Number: WSL2512R0500FEA; PartId: 21473; Supplier 1: Digi-Key; Supplier Part Number 1: WSLG-.05TR-ND; ComponentLink1Description: Datasheet; ComponentLink1URL: http://www.vishay.com/docs/30100/wsl.pdf; ComponentLink2Description: Digi-Key Listing; ComponentLink2URL: https://www.digikey.com/product-detail/en/vishay-dale/WSL2512R0500FEA/WSLG-.05TR-ND/712568; Tolerance: 1%; PowerRating: 1W; Price: 0.442; Device Package: 2512 (6432 Metric)
footprint STACKPOLE CSR2512
pins: 1, 2

## WSL2512R0600FEA
designator R?
RES SMD 0.06 OHM 1% 1W 2512; Manufacturer: Vishay Dale; Value: 0.06; TemperatureRange: -65C ~ 170C; TemperatureCoefficient: 75ppm/C; Part Number: WSL2512R0600FEA; PartId: 21476; Supplier 1: Digi-Key; Supplier Part Number 1: WSLG-.06TR-ND; ComponentLink1Description: Datasheet; ComponentLink1URL: http://www.vishay.com/docs/30100/wsl.pdf; ComponentLink2Description: Digi-Key Listing; ComponentLink2URL: https://www.digikey.com/product-detail/en/vishay-dale/WSL2512R0600FEA/WSLG-.06TR-ND/712569; Tolerance: 1%; PowerRating: 1W; Price: 0.442; Device Package: 2512 (6432 Metric)
footprint STACKPOLE CSR2512
pins: 1, 2

## WSL2512R0700FEA
designator R?
RES SMD 0.07 OHM 1% 1W 2512; Manufacturer: Vishay Dale; Value: 0.07; TemperatureRange: -65C ~ 170C; TemperatureCoefficient: 75ppm/C; Part Number: WSL2512R0700FEA; PartId: 21468; Supplier 1: Digi-Key; Supplier Part Number 1: WSLG-.07TR-ND; ComponentLink1Description: Datasheet; ComponentLink1URL: http://www.vishay.com/docs/30100/wsl.pdf; ComponentLink2Description: Digi-Key Listing; ComponentLink2URL: https://www.digikey.com/product-detail/en/vishay-dale/WSL2512R0700FEA/WSLG-.07TR-ND/712570; Tolerance: 1%; PowerRating: 1W; Price: 0.39; Device Package: 2512 (6432 Metric)
footprint STACKPOLE CSR2512
pins: 1, 2

## WSL2512R0800FEA
designator R?
RES SMD 0.08 OHM 1% 1W 2512; Manufacturer: Vishay Dale; Value: 0.08; TemperatureRange: -65C ~ 170C; TemperatureCoefficient: 75ppm/C; Part Number: WSL2512R0800FEA; PartId: 21465; Supplier 1: Digi-Key; Supplier Part Number 1: WSLG-.08TR-ND; ComponentLink1Description: Datasheet; ComponentLink1URL: http://www.vishay.com/docs/30100/wsl.pdf; ComponentLink2Description: Digi-Key Listing; ComponentLink2URL: https://www.digikey.com/product-detail/en/vishay-dale/WSL2512R0800FEA/WSLG-.08TR-ND/712571; Tolerance: 1%; PowerRating: 1W; Price: 0.39; Device Package: 2512 (6432 Metric)
footprint STACKPOLE CSR2512
pins: 1, 2

## WSL2512R0900FEA
designator R?
RES SMD 0.09 OHM 1% 1W 2512; Manufacturer: Vishay Dale; Value: 0.09; TemperatureRange: -65C ~ 170C; TemperatureCoefficient: 75ppm/C; Part Number: WSL2512R0900FEA; PartId: 21466; Supplier 1: Digi-Key; Supplier Part Number 1: WSLG-.09TR-ND; ComponentLink1Description: Datasheet; ComponentLink1URL: http://www.vishay.com/docs/30100/wsl.pdf; ComponentLink2Description: Digi-Key Listing; ComponentLink2URL: https://www.digikey.com/product-detail/en/vishay-dale/WSL2512R0900FEA/WSLG-.09TR-ND/712572; Tolerance: 1%; PowerRating: 1W; Price: 0.39; Device Package: 2512 (6432 Metric)
footprint STACKPOLE CSR2512
pins: 1, 2

## WSL2512R1000FEA
designator R?
RES SMD 0.1 OHM 1% 1W 2512; Manufacturer: Vishay Dale; Value: 0.1; TemperatureRange: -65C ~ 170C; TemperatureCoefficient: 75ppm/C; Part Number: WSL2512R1000FEA; PartId: 21462; Supplier 1: Digi-Key; Supplier Part Number 1: WSLG-.10TR-ND; ComponentLink1Description: Datasheet; ComponentLink1URL: http://www.vishay.com/docs/30100/wsl.pdf; ComponentLink2Description: Digi-Key Listing; ComponentLink2URL: https://www.digikey.com/product-detail/en/vishay-dale/WSL2512R1000FEA/WSLG-.10TR-ND/712573; Tolerance: 1%; PowerRating: 1W; Price: 0.39; Device Package: 2512 (6432 Metric)
footprint STACKPOLE CSR2512
pins: 1, 2

## WSL2512R1500FEA
designator R?
RES SMD 0.15 OHM 1% 1W 2512; Manufacturer: Vishay Dale; Value: 0.15; TemperatureRange: -65C ~ 170C; TemperatureCoefficient: 75ppm/C; Part Number: WSL2512R1500FEA; PartId: 21464; Supplier 1: Digi-Key; Supplier Part Number 1: WSLG-.15TR-ND; ComponentLink1Description: Datasheet; ComponentLink1URL: http://www.vishay.com/docs/30100/wsl.pdf; ComponentLink2Description: Digi-Key Listing; ComponentLink2URL: https://www.digikey.com/product-detail/en/vishay-dale/WSL2512R1500FEA/WSLG-.15TR-ND/712574; Tolerance: 1%; PowerRating: 1W; Price: 0.39; Device Package: 2512 (6432 Metric)
footprint STACKPOLE CSR2512
pins: 1, 2

## WSL2512R1510FEA
designator R?
RES SMD 0.151 OHM 1% 1W 2512; Manufacturer: Vishay Dale; Value: 0.151; TemperatureRange: -65C ~ 170C; TemperatureCoefficient: 75ppm/C; Part Number: WSL2512R1510FEA; PartId: 21452; Supplier 1: Digi-Key; Supplier Part Number 1: WSLG-.151TR-ND; ComponentLink1Description: Datasheet; ComponentLink1URL: http://www.vishay.com/docs/30100/wsl.pdf; ComponentLink2Description: Digi-Key Listing; ComponentLink2URL: https://www.digikey.com/product-detail/en/vishay-dale/WSL2512R1510FEA/WSLG-.151TR-ND/712575; Tolerance: 1%; PowerRating: 1W; Price: 0.2893; Device Package: 2512 (6432 Metric)
footprint STACKPOLE CSR2512
pins: 1, 2

## WSL2512R2000FEA
designator R?
RES SMD 0.2 OHM 1% 1W 2512; Manufacturer: Vishay Dale; Value: 0.2; TemperatureRange: -65C ~ 170C; TemperatureCoefficient: 75ppm/C; Part Number: WSL2512R2000FEA; PartId: 21463; Supplier 1: Digi-Key; Supplier Part Number 1: WSLG-.20TR-ND; ComponentLink1Description: Datasheet; ComponentLink1URL: http://www.vishay.com/docs/30100/wsl.pdf; ComponentLink2Description: Digi-Key Listing; ComponentLink2URL: https://www.digikey.com/product-detail/en/vishay-dale/WSL2512R2000FEA/WSLG-.20TR-ND/712576; Tolerance: 1%; PowerRating: 1W; Price: 0.39; Device Package: 2512 (6432 Metric)
footprint STACKPOLE CSR2512
pins: 1, 2

## WSL20101L000FEA
designator R?
RES SMD 0.001 OHM 1% 1/2W 2010; Manufacturer: Vishay Dale; Value: 0.001; TemperatureRange: -65C ~ 170C; TemperatureCoefficient: 275ppm/C; PowerRating: 0.5W, 1/2W; Part Number: WSL20101L000FEA; PartId: 21606; Supplier 1: Digi-Key; Supplier Part Number 1: WSLE-.001TR-ND; ComponentLink1Description: Datasheet; ComponentLink1URL: http://www.vishay.com/docs/30100/wsl.pdf; ComponentLink2Description: Digi-Key Listing; ComponentLink2URL: https://www.digikey.com/product-detail/en/vishay-dale/WSL20101L000FEA/WSLE-.001TR-ND/712504; Tolerance: 1%; Price: 0.494; Device Package: 2010 (5025 Metric)
footprint STACKPOLE CSR2010
pins: 1, 2

## WSL20101L000FEA18
designator R?
RES SMD 0.001 OHM 1% 1W 2010; Manufacturer: Vishay Dale; Value: 0.001; TemperatureRange: -65C ~ 170C; TemperatureCoefficient: 275ppm/C; Part Number: WSL20101L000FEA18; PartId: 21610; Supplier 1: Digi-Key; Supplier Part Number 1: WSLF-.001TR-ND; ComponentLink1Description: Datasheet; ComponentLink1URL: http://www.vishay.com/docs/31057/wslhigh.pdf; ComponentLink2Description: Digi-Key Listing; ComponentLink2URL: https://www.digikey.com/product-detail/en/vishay-dale/WSL20101L000FEA18/WSLF-.001TR-ND/712505; Tolerance: 1%; PowerRating: 1W; Price: 0.6435; Device Package: 2010 (5025 Metric)
footprint STACKPOLE CSR2010
pins: 1, 2

## WSL20102L000FEA
designator R?
RES SMD 0.002 OHM 1% 1/2W 2010; Manufacturer: Vishay Dale; Value: 0.002; TemperatureRange: -65C ~ 170C; TemperatureCoefficient: 275ppm/C; PowerRating: 0.5W, 1/2W; Part Number: WSL20102L000FEA; PartId: 21607; Supplier 1: Digi-Key; Supplier Part Number 1: WSLE-.002TR-ND; ComponentLink1Description: Datasheet; ComponentLink1URL: http://www.vishay.com/docs/30100/wsl.pdf; ComponentLink2Description: Digi-Key Listing; ComponentLink2URL: https://www.digikey.com/product-detail/en/vishay-dale/WSL20102L000FEA/WSLE-.002TR-ND/712506; Tolerance: 1%; Price: 0.494; Device Package: 2010 (5025 Metric)
footprint STACKPOLE CSR2010
pins: 1, 2

## WSL20103L000FEA
designator R?
RES SMD 0.003 OHM 1% 1/2W 2010; Manufacturer: Vishay Dale; Value: 0.003; TemperatureRange: -65C ~ 170C; TemperatureCoefficient: 150ppm/C; PowerRating: 0.5W, 1/2W; Part Number: WSL20103L000FEA; PartId: 21608; Supplier 1: Digi-Key; Supplier Part Number 1: WSLE-.003TR-ND; ComponentLink1Description: Datasheet; ComponentLink1URL: http://www.vishay.com/docs/30100/wsl.pdf; ComponentLink2Description: Digi-Key Listing; ComponentLink2URL: https://www.digikey.com/product-detail/en/vishay-dale/WSL20103L000FEA/WSLE-.003TR-ND/712507; Tolerance: 1%; Price: 0.494; Device Package: 2010 (5025 Metric)
footprint STACKPOLE CSR2010
pins: 1, 2

## WSL20108L000FEA
designator R?
RES SMD 0.008 OHM 1% 1/2W 2010; Manufacturer: Vishay Dale; Value: 0.008; TemperatureRange: -65C ~ 170C; TemperatureCoefficient: 75ppm/C; PowerRating: 0.5W, 1/2W; Part Number: WSL20108L000FEA; PartId: 21605; Supplier 1: Digi-Key; Supplier Part Number 1: WSLE-.008TR-ND; ComponentLink1Description: Datasheet; ComponentLink1URL: http://www.vishay.com/docs/30100/wsl.pdf; ComponentLink2Description: Digi-Key Listing; ComponentLink2URL: https://www.digikey.com/product-detail/en/vishay-dale/WSL20108L000FEA/WSLE-.008TR-ND/712514; Tolerance: 1%; Price: 0.468; Device Package: 2010 (5025 Metric)
footprint STACKPOLE CSR2010
pins: 1, 2

## WSL25121L000FEA
designator R?
RES SMD 0.001 OHM 1% 1W 2512; Manufacturer: Vishay Dale; Value: 0.001; TemperatureRange: -65C ~ 170C; TemperatureCoefficient: 275ppm/C; Part Number: WSL25121L000FEA; PartId: 21510; Supplier 1: Digi-Key; Supplier Part Number 1: WSLG-.001TR-ND; ComponentLink1Description: Datasheet; ComponentLink1URL: http://www.vishay.com/docs/30100/wsl.pdf; ComponentLink2Description: Digi-Key Listing; ComponentLink2URL: https://www.digikey.com/product-detail/en/vishay-dale/WSL25121L000FEA/WSLG-.001TR-ND/712551; Tolerance: 1%; PowerRating: 1W; Price: 0.663; Device Package: 2512 (6432 Metric)
footprint STACKPOLE CSR2512
pins: 1, 2

## WSL25121L000FEA18
designator R?
RES SMD 0.001 OHM 1% 2W 2512; Manufacturer: Vishay Dale; Value: 0.001; TemperatureRange: -65C ~ 170C; TemperatureCoefficient: 275ppm/C; Part Number: WSL25121L000FEA18; PartId: 21517; Supplier 1: Digi-Key; Supplier Part Number 1: WSLH-.001TR-ND; ComponentLink1Description: Datasheet; ComponentLink1URL: http://www.vishay.com/docs/31057/wslhigh.pdf; ComponentLink2Description: Digi-Key Listing; ComponentLink2URL: https://www.digikey.com/product-detail/en/vishay-dale/WSL25121L000FEA18/WSLH-.001TR-ND/2695039; Tolerance: 1%; PowerRating: 2W; Price: 0.8606; Device Package: 2512 (6432 Metric)
footprint STACKPOLE CSR2512
pins: 1, 2

## WSL25122L000FEA18
designator R?
RES SMD 0.002 OHM 1% 2W 2512; Manufacturer: Vishay Dale; Value: 0.002; TemperatureRange: -65C ~ 170C; TemperatureCoefficient: 275ppm/C; Part Number: WSL25122L000FEA18; PartId: 21514; Supplier 1: Digi-Key; Supplier Part Number 1: WSLH-.002TR-ND; ComponentLink1Description: Datasheet; ComponentLink1URL: http://www.vishay.com/docs/31057/wslhigh.pdf; ComponentLink2Description: Digi-Key Listing; ComponentLink2URL: https://www.digikey.com/product-detail/en/vishay-dale/WSL25122L000FEA18/WSLH-.002TR-ND/2695040; Tolerance: 1%; PowerRating: 2W; Price: 0.8606; Device Package: 2512 (6432 Metric)
footprint STACKPOLE CSR2512
pins: 1, 2

## WSL25123L000FEA
designator R?
RES SMD 0.003 OHM 1% 1W 2512; Manufacturer: Vishay Dale; Value: 0.003; TemperatureRange: -65C ~ 170C; TemperatureCoefficient: 150ppm/C; Part Number: WSL25123L000FEA; PartId: 21509; Supplier 1: Digi-Key; Supplier Part Number 1: WSLG-.003TR-ND; ComponentLink1Description: Datasheet; ComponentLink1URL: http://www.vishay.com/docs/30100/wsl.pdf; ComponentLink2Description: Digi-Key Listing; ComponentLink2URL: https://www.digikey.com/product-detail/en/vishay-dale/WSL25123L000FEA/WSLG-.003TR-ND/712553; Tolerance: 1%; PowerRating: 1W; Price: 0.663; Device Package: 2512 (6432 Metric)
footprint STACKPOLE CSR2512
pins: 1, 2

## WSL25123L000FEA18
designator R?
RES SMD 0.003 OHM 1% 2W 2512; Manufacturer: Vishay Dale; Value: 0.003; TemperatureRange: -65C ~ 170C; TemperatureCoefficient: 150ppm/C; Part Number: WSL25123L000FEA18; PartId: 21515; Supplier 1: Digi-Key; Supplier Part Number 1: WSLH-.003TR-ND; ComponentLink1Description: Datasheet; ComponentLink1URL: http://www.vishay.com/docs/31057/wslhigh.pdf; ComponentLink2Description: Digi-Key Listing; ComponentLink2URL: https://www.digikey.com/product-detail/en/vishay-dale/WSL25123L000FEA18/WSLH-.003TR-ND/2695041; Tolerance: 1%; PowerRating: 2W; Price: 0.8606; Device Package: 2512 (6432 Metric)
footprint STACKPOLE CSR2512
pins: 1, 2

## WSL25124L000FEA18
designator R?
RES SMD 0.004 OHM 1% 2W 2512; Manufacturer: Vishay Dale; Value: 0.004; TemperatureRange: -65C ~ 170C; TemperatureCoefficient: 150ppm/C; Part Number: WSL25124L000FEA18; PartId: 21516; Supplier 1: Digi-Key; Supplier Part Number 1: WSLH-.004TR-ND; ComponentLink1Description: Datasheet; ComponentLink1URL: http://www.vishay.com/docs/31057/wslhigh.pdf; ComponentLink2Description: Digi-Key Listing; ComponentLink2URL: https://www.digikey.com/product-detail/en/vishay-dale/WSL25124L000FEA18/WSLH-.004TR-ND/2695042; Tolerance: 1%; PowerRating: 2W; Price: 0.8606; Device Package: 2512 (6432 Metric)
footprint STACKPOLE CSR2512
pins: 1, 2

## WSL25125L000FEA
designator R?
RES SMD 0.005 OHM 1% 1W 2512; Manufacturer: Vishay Dale; Value: 0.005; TemperatureRange: -65C ~ 170C; TemperatureCoefficient: 110ppm/C; Part Number: WSL25125L000FEA; PartId: 21501; Supplier 1: Digi-Key; Supplier Part Number 1: WSLG-.005TR-ND; ComponentLink1Description: Datasheet; ComponentLink1URL: http://www.vishay.com/docs/30100/wsl.pdf; ComponentLink2Description: Digi-Key Listing; ComponentLink2URL: https://www.digikey.com/product-detail/en/vishay-dale/WSL25125L000FEA/WSLG-.005TR-ND/712555; Tolerance: 1%; PowerRating: 1W; Price: 0.6375; Device Package: 2512 (6432 Metric)
footprint STACKPOLE CSR2512
pins: 1, 2

## WSL25125L000FEA18
designator R?
RES SMD 0.005 OHM 1% 2W 2512; Manufacturer: Vishay Dale; Value: 0.005; TemperatureRange: -65C ~ 170C; TemperatureCoefficient: 110ppm/C; Part Number: WSL25125L000FEA18; PartId: 21512; Supplier 1: Digi-Key; Supplier Part Number 1: WSLH-.005TR-ND; ComponentLink1Description: Datasheet; ComponentLink1URL: http://www.vishay.com/docs/31057/wslhigh.pdf; ComponentLink2Description: Digi-Key Listing; ComponentLink2URL: https://www.digikey.com/product-detail/en/vishay-dale/WSL25125L000FEA18/WSLH-.005TR-ND/2695043; Tolerance: 1%; PowerRating: 2W; Price: 0.8287; Device Package: 2512 (6432 Metric)
footprint STACKPOLE CSR2512
pins: 1, 2

## WSL25126L000FEA
designator R?
RES SMD 0.006 OHM 1% 1W 2512; Manufacturer: Vishay Dale; Value: 0.006; TemperatureRange: -65C ~ 170C; TemperatureCoefficient: 110ppm/C; Part Number: WSL25126L000FEA; PartId: 21500; Supplier 1: Digi-Key; Supplier Part Number 1: WSLG-.006TR-ND; ComponentLink1Description: Datasheet; ComponentLink1URL: http://www.vishay.com/docs/30100/wsl.pdf; ComponentLink2Description: Digi-Key Listing; ComponentLink2URL: https://www.digikey.com/product-detail/en/vishay-dale/WSL25126L000FEA/WSLG-.006TR-ND/712556; Tolerance: 1%; PowerRating: 1W; Price: 0.6375; Device Package: 2512 (6432 Metric)
footprint STACKPOLE CSR2512
pins: 1, 2